# Altium schematic symbol library VJ0805Y223KXXAC.SchLib: 1 symbol
Pins are listed as number, name and electrical type; pins without a type are passive.

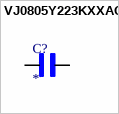
[diagram p0: symbol VJ0805Y223KXXAC]

## VJ0805Y223KXXAC
designator C?
MF: {'manufacturer': u'Vishay Vitramon'}; MP: VJ0805Y223KXXAC; Package: None; Price: None; Value: *; Availability: Unavailable
footprint CAPC2012X145N
pins: 1, 2